# Altium footprint library Zero2W.PcbLib: 1 footprints
Each footprint in its own frame and in the unit in brackets; x right, y up, seen from the top. Pads: shape width x height; smd on the part's side, far side on the other; paste and mask are expansions set on the pad; w line width, h text height; cw(c..) or ccw(c..) is an arc to the next point about the centre after c.
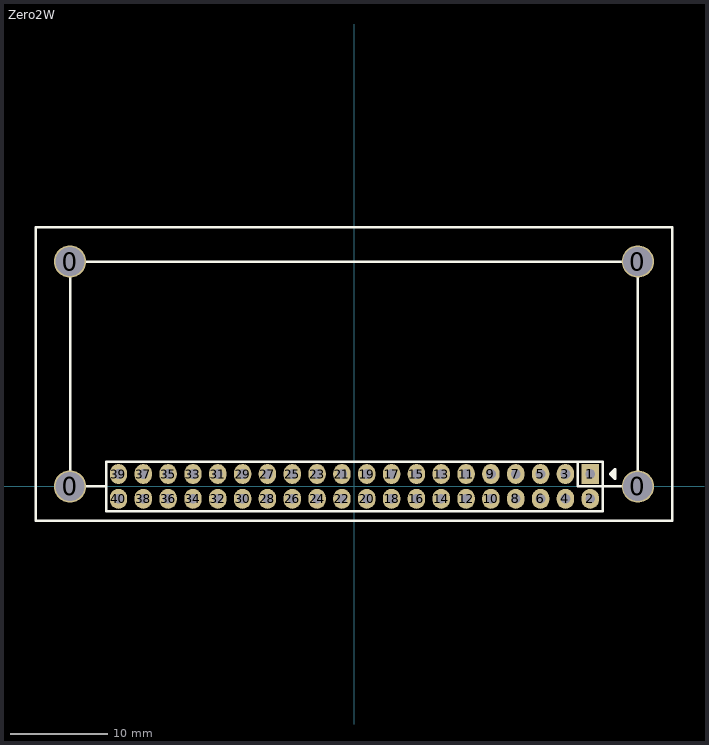
[diagram p0: the footprint, top view; thin cyan lines are the x and y axes]

## Zero2W [mil]
pads (44):
  round 129.92 hole 118.11: 0(-1145,0) 0(-1145,905.51) 0(1141.73,0) 0(1141.73,905.51)
  rect 70x80 hole 39.37: 1(950,50)
  oval 70x80 hole 39.37: 2(950,-50) 3(850,50) 4(850,-50) 5(750,50) 6(750,-50) 7(650,50) 8(650,-50) 9(550,50) 10(550,-50) 11(450,50) 12(450,-50) 13(350,50) 14(350,-50) 15(250,50) 16(250,-50) 17(150,50) 18(150,-50) 19(50,50) 20(50,-50) 21(-50,50) 22(-50,-50) 23(-150,50) 24(-150,-50) 25(-250,50) 26(-250,-50) 27(-350,50) 28(-350,-50) 29(-450,50) 30(-450,-50) 31(-550,50) 32(-550,-50) 33(-650,50) 34(-650,-50) 35(-750,50) 36(-750,-50) 37(-850,50) 38(-850,-50) 39(-950,50) 40(-950,-50)
Top Overlay:
  lines w10: -1000,0 -1145,0 -1145,905.51 1141.73,905.51 1141.73,0 1000,0 900,0 900,100 ; 1040,40 1040,60 ; -1282.8,-137.8 -1282.8,452.76 -1282.8,1043.31 -1158.37,1043.31 1280,1043.31 1280,-137.8 -1282.8,-137.8 ; -1000,-100 -1000,100 1000,100 1000,-100 -1000,-100 ; 1030,50 1050,70 1050,30 1030,50
3D body "PIN2X20_100mils.STEP": height 397.64, standoff -59.06, extent -1000,-100 1000,100